# EAGLE library part ARDUINO_PRO_MINI (library OpenSpace)
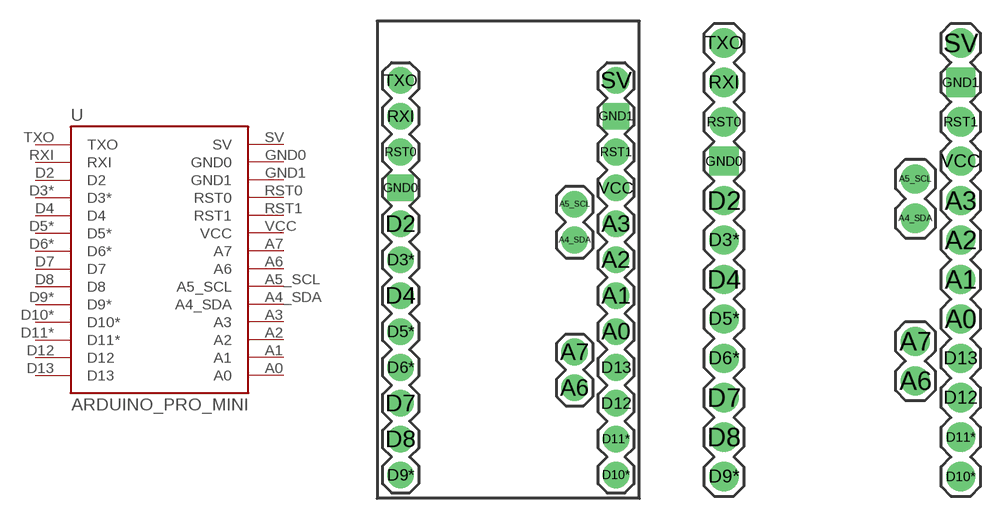
[diagram p6: symbol with the pads of ARDUINO_PRO_MINI; footprints ARDUINO_PRO_MINI, ARDUINO_PRO_MINI-NOSILK]

Designator prefix -

## ARDUINO_PRO_MINI  [ARDUINO_PRO_MINI]
A0  A0
A1  A1
A2  A2
A3  A3
A4_SDA  A4_SDA
A5_SCL  A5_SCL
A6  A6
A7  A7
D2  D2
D3*  D3*
D4  D4
D5*  D5*
D6*  D6*
D7  D7
D8  D8
D9*  D9*
D10*  D10*
D11*  D11*
D12  D12
D13  D13
GND0  GND0
GND1  GND1
RST0  RST0
RST1  RST1
RXI  RXI
SV  SV
TXO  TXO
VCC  VCC

## ARDUINO_PRO_MINI-NOSILK  [ARDUINO_PRO_MINI-NOSILK]
Pads as for ARDUINO_PRO_MINI

## Footprint ARDUINO_PRO_MINI (pad centres in mm)
drill 1.016 pad 1.88: A0 7.62,-3.81; A1 7.62,-1.27; A2 7.62,1.27; A3 7.62,3.81; A4_SDA 4.699,2.667; A5_SCL 4.699,5.207; A6 4.699,-7.798; A7 4.699,-5.258; D2 -7.62,3.81; D3* -7.62,1.27; D4 -7.62,-1.27; D5* -7.62,-3.81; D6* -7.62,-6.35; D7 -7.62,-8.89; D8 -7.62,-11.43; D9* -7.62,-13.97; D10* 7.62,-13.97; D11* 7.62,-11.43; D12 7.62,-8.89; D13 7.62,-6.35; RST0 -7.62,8.89; RST1 7.62,8.89; RXI -7.62,11.43; SV 7.62,13.97; TXO -7.62,13.97; VCC 7.62,6.35
drill 1.016 pad 1.88 square: GND0 -7.62,6.35; GND1 7.62,11.43

## Footprint ARDUINO_PRO_MINI-NOSILK (pad centres in mm)
drill 1.016 pad 1.88: A0 7.62,-3.81; A1 7.62,-1.27; A2 7.62,1.27; A3 7.62,3.81; A4_SDA 4.699,2.667; A5_SCL 4.699,5.207; A6 4.699,-7.798; A7 4.699,-5.258; D2 -7.62,3.81; D3* -7.62,1.27; D4 -7.62,-1.27; D5* -7.62,-3.81; D6* -7.62,-6.35; D7 -7.62,-8.89; D8 -7.62,-11.43; D9* -7.62,-13.97; D10* 7.62,-13.97; D11* 7.62,-11.43; D12 7.62,-8.89; D13 7.62,-6.35; RST0 -7.62,8.89; RST1 7.62,8.89; RXI -7.62,11.43; SV 7.62,13.97; TXO -7.62,13.97; VCC 7.62,6.35
drill 1.016 pad 1.88 square: GND0 -7.62,6.35; GND1 7.62,11.43